# Altium footprint library Transformers.PcbLib: 17 footprints (part 1 of 2)
Each footprint in its own frame and in the unit in brackets; x right, y up, seen from the top. Pads: shape width x height; smd on the part's side, far side on the other; paste and mask are expansions set on the pad; w line width, h text height; cw(c..) or ccw(c..) is an arc to the next point about the centre after c.
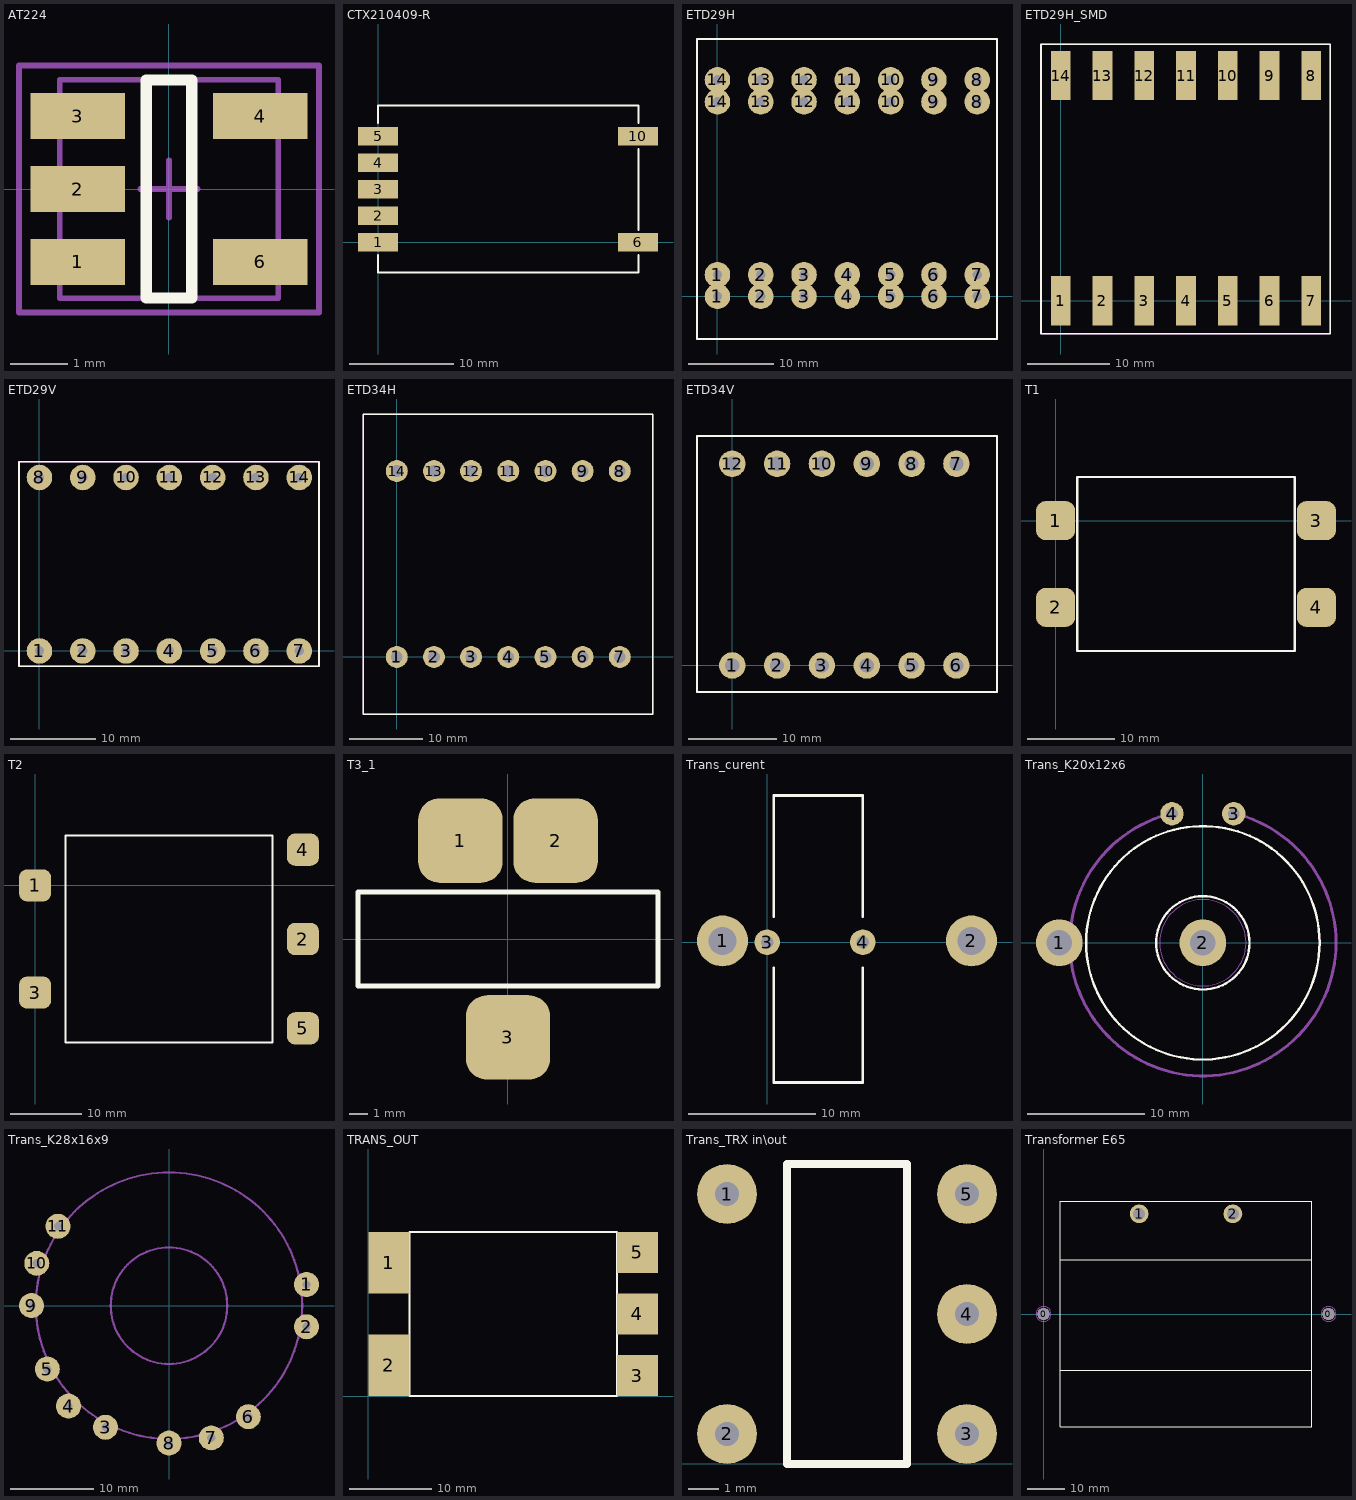
[diagram p0: the footprints below, top view; thin cyan lines are the x and y axes]

## AT224 [mm]
height 3.81
pads (5):
  rect 1.65x0.8 smd: 1(-1.59,-1.27) 2(-1.59,0) 3(-1.59,1.27) 4(1.59,1.27) 6(1.59,-1.27)
Top Overlay:
  lines w0.2: -0.4,-1.9 -0.4,1.9 0.4,1.9 0.4,-1.9 -0.4,-1.9
Mechanical 13:
  lines w0.1: -1.905,-1.905 1.905,-1.905 1.905,1.905 -1.905,1.905 -1.905,-1.905
Mechanical 15:
  lines w0.1: -0.5,0 0.5,0 ; 0,-0.5 0,0.5 ; -2.615,-2.155 2.615,-2.155 2.615,2.155 -2.615,2.155 -2.615,-2.155
3D body: height 3.81, standoff 0.05, extent -1.905,-1.905 1.905,1.905

## CTX210409-R [mm]
height 3.81
pads (7):
  rect 3.85x1.75 smd: 1(0,0) 2(0,2.54) 3(0,5.08) 4(0,7.62) 5(0,10.16) 6(24.85,0) 10(24.85,10.16)
Top Overlay:
  lines w0.2: 0,-1.2 0,-2.9 24.9,-2.9 24.9,-1.2 ; 0,11.4 0,13.1 24.9,13.1 24.9,11.4 ; 24.9,1.2 24.9,8.9
3D body "User Library-CTX210403 Transfo COILTRONICSG.STEP": height 5, standoff 0, extent 1.325,-2.95 23.525,13.1

## ETD29H [mm]
pads (28):
  round 3 hole 1.1: 1(0,0) 1(0,2.54) 2(5.08,0) 2(5.08,2.54) 3(10.16,0) 3(10.16,2.54) 4(15.24,0) 4(15.24,2.54) 5(20.32,0) 5(20.32,2.54) 6(25.4,0) 6(25.4,2.54) 7(30.48,0) 7(30.48,2.54) 8(30.48,22.83) 8(30.48,25.4) 9(25.4,22.83) 9(25.4,25.4) 10(20.32,22.83) 10(20.32,25.4) 11(15.24,22.83) 11(15.24,25.4) 12(10.16,22.83) 12(10.16,25.4) 13(5.08,22.83) 13(5.08,25.4) 14(0,22.83) 14(0,25.4)
Top Overlay:
  lines w0.2: -2.4,-5 -2.4,30.2 32.8,30.2 32.8,-5 -2.4,-5
TopAssy:
  lines w0.2: -2.4,-5 32.8,-5 32.8,30.2 -2.4,30.2 -2.4,-5
3D body "User Library-EDT29_V.STEP": height 40.37, standoff -3.58, extent -2.35,0.74 32.85,24.74

## ETD29H_SMD [mm]
pads (14):
  rect 2.4x6 smd: 1(0,0) 2(5.08,0) 3(10.16,0) 4(15.24,0) 5(20.32,0) 6(25.4,0) 7(30.48,0) 8(30.48,27.4) 9(25.4,27.4) 10(20.32,27.4) 11(15.24,27.4) 12(10.16,27.4) 13(5.08,27.4) 14(0,27.4)
Top Overlay:
  lines w0.2: -2.4,-4 32.8,-4 32.8,31.2 -2.4,31.2 -2.4,-4
TopAssy:
  lines w0.2: -2.4,-4 -2.4,31.2 32.8,31.2 32.8,-4 -2.4,-4
3D body "User Library-EDT29_V.STEP": height 43.87, standoff -0.08, extent -2.35,1.74 32.85,25.74

## ETD29V [mm]
pads (14):
  round 3 hole 1.1: 1(0,0) 2(5.08,0) 3(10.16,0) 4(15.24,0) 5(20.32,0) 6(25.4,0) 7(30.48,0) 8(0,20.35) 9(5.08,20.35) 10(10.16,20.35) 11(15.24,20.35) 12(20.32,20.35) 13(25.4,20.35) 14(30.48,20.35)
Top Overlay:
  lines w0.2: -2.4,-1.8 -2.4,22.2 32.8,22.2 32.8,-1.8 -2.4,-1.8
TopAssy:
  lines w0.2: -2.4,-1.8 32.8,-1.8 32.8,22.2 -2.4,22.2 -2.4,-1.8
3D body "User Library-EDT29_V.STEP": height 40.37, standoff -3.58, extent -2.35,-1.8 32.85,22.2

## ETD34H [mm]
pads (14):
  round 3 hole 1.6: 1(0,0) 2(5.08,0) 3(10.16,0) 4(15.24,0) 5(20.32,0) 6(25.4,0) 7(30.48,0) 8(30.48,25.4) 9(25.4,25.4) 10(20.32,25.4) 11(15.24,25.4) 12(10.16,25.4) 13(5.08,25.4) 14(0,25.4)
Top Overlay:
  lines w0.2: -4.6,-7.8 35,-7.8 35,33.2 -4.6,33.2 -4.6,-7.8
TopAssy:
  lines w0.2: -4.6,-7.8 -4.6,33.2 35,33.2 35,-7.8 -4.6,-7.8
3D body "User Library-ETD34.STEP": height 32.9, standoff -2.44, extent -4.56,-7.8 35.04,33.2

## ETD34V [mm]
pads (12):
  round 3 hole 1.6: 1(0,0) 2(5.08,0) 3(10.16,0) 4(15.24,0) 5(20.32,0) 6(25.4,0) 7(25.4,22.86) 8(20.32,22.86) 9(15.24,22.86) 10(10.16,22.86) 11(5.08,22.86) 12(0,22.86)
Top Overlay:
  lines w0.2: -4,-3 30,-3 30,26 -4,26 -4,-3
TopAssy:
  lines w0.2: -4,-3 -4,26 30,26 30,-3 -4,-3

## T1 [mm]
pads (4):
  rrect50% 4.5x4.5 smd: 1(0,0) 2(0,-10) 3(30,0) 4(30,-10)
Top Overlay:
  lines w0.254: 2.5,-15 27.5,-15 27.5,5 2.5,5 2.5,-15

## T2 [mm]
pads (5):
  rrect50% 4.5x4.5 smd: 1(0,0) 2(37.5,-7.5) 3(0,-15) 4(37.5,5) 5(37.5,-20)
Top Overlay:
  lines w0.254: 4.25,-22 4.25,7 33.25,7 33.25,-22 4.25,-22

## T3_1 [mm]
pads (3):
  rrect50% 4.5x4.5 smd: 1(-2.54,5.25) 2(2.54,5.25) 3(0,-5.25)
Top Overlay:
  lines w0.254: -8,-2.5 8,-2.5 8,2.5 -8,2.5 -8,-2.5

## Trans_curent [mm]
pads (4):
  round 4 hole 2.2: 1(-3.5,0.1) 2(16.02,0.1)
  round 2 hole 1: 3(0,0) 4(7.5,0)
Top Overlay:
  lines w0.2: 0.5,-2 0.5,-11 7.5,-11 7.5,-2 ; 0.5,2 0.5,11.5 7.5,11.5 7.5,2
3D body "User Library-5701-RC.STEP": height 28.03, standoff -7, extent -1.91,-10.985 9.41,11.435
3D body: height 15, standoff -3, extent -4.611,-1.018 -2.38,1.218
3D body: height -1.88, standoff -4.12, extent -4.629,-1.03 -2.4,1.2
3D body: height 16.12, standoff 13.88, extent -4.609,-1.015 -2.38,1.215
3D body: height 16.11, standoff 13.88, extent -3.5,-1.018 16,1.218
3D body: height 16.12, standoff 13.88, extent 14.891,-1.015 17.12,1.215
3D body: height -1.88, standoff -4.12, extent 14.891,-1.015 17.12,1.215
3D body: height 15, standoff -3, extent 14.889,-1.018 17.12,1.218

## Trans_K20x12x6 [mm]
height 15
pads (4):
  round 4 hole 2.2: 1(-12.3,0) 2(0,0)
  round 2 hole 1: 3(2.65,11.055) 4(-2.65,11.055)
Top Overlay:
  circle w0.2: c0,0 r4
  circle w0.2: c0,0 r10
TopAssy:
  circle w0.01: c0,0 r3.7
Top3D:
  lines w0.254: -2.659,11.092 ccw(c0,0) 2.659,11.092
3D body: height 7.2, standoff -0.2, extent 2.598,10.673 3.093,11.169
3D body: height 7.4, standoff 7, extent 2.598,10.674 3.093,11.169
3D body: height 0, standoff -0.4, extent 2.599,10.674 3.093,11.169
3D body: height 0, standoff -0.4, extent -2.868,2.683 -2.469,11.183
3D body: height 7.4, standoff 7, extent 1.403,3.121 3.048,11.085
3D body: height 7.4, standoff 7, extent -2.908,2.368 -2.347,2.929
3D body: height 0, standoff -0.4, extent -2.908,2.368 -2.347,2.929
3D body: height 7.2, standoff -0.2, extent -2.909,2.368 -2.347,2.93
3D body: height 7.4, standoff 7, extent -7.41,2.519 -2.477,8.291
3D body: height 7.4, standoff 7, extent -9.4,1.706 -2.958,5.186
3D body: height 7.2, standoff -0.2, extent -3.323,1.614 -2.788,2.148
3D body: height 7.2, standoff -0.2, extent -7.31,7.624 -6.775,8.159
3D body: height 0, standoff -0.4, extent -3.323,1.614 -2.789,2.148
3D body: height 7.4, standoff 7, extent -3.323,1.614 -2.789,2.148
3D body: height 7.4, standoff 7, extent -7.31,7.625 -6.776,8.159
3D body: height 0, standoff -0.4, extent -7.31,7.625 -6.776,8.159
3D body: height 0, standoff -0.4, extent -7.233,1.816 -2.927,8.04
3D body: height 0, standoff -0.4, extent -9.49,4.757 -9.029,5.218
3D body: height 7.4, standoff 7, extent -9.49,4.757 -9.029,5.218
3D body: height 7.2, standoff -0.2, extent -9.491,4.757 -9.029,5.219
3D body: height 0, standoff -0.4, extent -9.422,0.237 -3.651,5.17
3D body: height 7.4, standoff 7, extent -3.96,0.127 -3.499,0.588
3D body: height 0, standoff -0.4, extent -3.96,0.127 -3.499,0.588
3D body: height 7.2, standoff -0.2, extent -3.961,0.126 -3.499,0.588
3D body: height 7.4, standoff 7, extent -10.855,0.159 -3.695,1.802
3D body: height 7.4, standoff 7, extent -10.424,-2.323 -3.524,-0.301
3D body: height 7.2, standoff -0.2, extent -3.816,-0.743 -3.335,-0.263
3D body: height 7.2, standoff -0.2, extent -10.734,1.298 -10.253,1.779
3D body: height 0, standoff -0.4, extent -3.816,-0.743 -3.335,-0.263
3D body: height 7.4, standoff 7, extent -3.816,-0.743 -3.335,-0.263
3D body: height 7.4, standoff 7, extent -10.733,1.299 -10.253,1.779
3D body: height 0, standoff -0.4, extent -10.733,1.299 -10.253,1.779
3D body: height 0, standoff -0.4, extent -10.593,-0.684 -3.577,1.743
3D body: height 0, standoff -0.4, extent -10.597,-2.383 -10.053,-1.839
3D body: height 7.4, standoff 7, extent -10.597,-2.383 -10.053,-1.839
3D body: height 7.2, standoff -0.2, extent -10.597,-2.383 -10.052,-1.839
3D body: height 0, standoff -0.4, extent -10.371,-2.31 -3.17,-1.911
3D body: height 7.4, standoff 7, extent -3.384,-2.375 -2.84,-1.832
3D body: height 0, standoff -0.4, extent -3.384,-2.376 -2.84,-1.832
3D body: height 7.2, standoff -0.2, extent -3.385,-2.376 -2.84,-1.831
3D body: height 7.4, standoff 7, extent -9.446,-5.878 -3.012,-1.933
3D body: height 7.4, standoff 7, extent -6.799,-8.359 -2.315,-2.495
3D body: height 7.2, standoff -0.2, extent -2.752,-2.902 -2.194,-2.344
3D body: height 7.2, standoff -0.2, extent -9.364,-5.785 -8.806,-5.227
3D body: height 0, standoff -0.4, extent -2.752,-2.901 -2.195,-2.345
3D body: height 7.4, standoff 7, extent -2.752,-2.901 -2.195,-2.345
3D body: height 7.4, standoff 7, extent -9.363,-5.784 -8.806,-5.227
3D body: height 0, standoff -0.4, extent -9.363,-5.784 -8.806,-5.227
3D body: height 0, standoff -0.4, extent -9.206,-5.706 -2.445,-2.47
3D body: height 0, standoff -0.4, extent -6.865,-8.449 -6.355,-7.938
3D body: height 7.4, standoff 7, extent -6.865,-8.449 -6.355,-7.938
3D body: height 7.2, standoff -0.2, extent -6.865,-8.449 -6.355,-7.938
3D body: height 0, standoff -0.4, extent -6.773,-8.375 -1.002,-3.442
3D body: height 7.4, standoff 7, extent -1.345,-3.807 -0.834,-3.296
3D body: height 0, standoff -0.4, extent -1.345,-3.807 -0.834,-3.296
3D body: height 7.2, standoff -0.2, extent -1.345,-3.807 -0.834,-3.296
3D body: height 7.4, standoff 7, extent -3.737,-10.386 -0.901,-3.484
3D body: height 7.4, standoff 7, extent -0.484,-10.633 0.341,-3.622
3D body: height 7.2, standoff -0.2, extent -0.489,-3.851 -0.067,-3.428
3D body: height 7.2, standoff -0.2, extent -3.701,-10.309 -3.279,-9.887
3D body: height 0, standoff -0.4, extent -0.489,-3.851 -0.067,-3.429
3D body: height 7.4, standoff 7, extent -0.489,-3.851 -0.067,-3.429
3D body: height 7.4, standoff 7, extent -3.701,-10.309 -3.279,-9.887
3D body: height 0, standoff -0.4, extent -3.701,-10.309 -3.279,-9.887
3D body: height 0, standoff -0.4, extent -3.689,-10.227 -0.12,-3.606
3D body: height 0, standoff -0.4, extent -0.122,-10.821 0.389,-10.311
3D body: height 7.4, standoff 7, extent -0.121,-10.821 0.389,-10.311
3D body: height 7.2, standoff -0.2, extent -0.122,-10.822 0.389,-10.31
3D body: height 0, standoff -0.4, extent -0.071,-10.645 1.572,-3.486
3D body: height 7.4, standoff 7, extent 1.124,-3.717 1.634,-3.206
3D body: height 0, standoff -0.4, extent 1.124,-3.717 1.634,-3.206
3D body: height 7.2, standoff -0.2, extent 1.124,-3.717 1.635,-3.206
3D body: height 7.4, standoff 7, extent 1.193,-10.295 4.03,-3.393
3D body: height 7.4, standoff 7, extent 1.903,-8.163 7.01,-2.811
3D body: height 7.2, standoff -0.2, extent 1.775,-3.23 2.338,-2.666
3D body: height 7.2, standoff -0.2, extent 3.465,-10.242 4.029,-9.678
3D body: height 0, standoff -0.4, extent 1.775,-3.23 2.338,-2.667
3D body: height 7.4, standoff 7, extent 1.775,-3.23 2.338,-2.667
3D body: height 7.4, standoff 7, extent 3.466,-10.241 4.029,-9.678
3D body: height 0, standoff -0.4, extent 3.466,-10.241 4.029,-9.678
3D body: height 0, standoff -0.4, extent 1.883,-10.051 3.951,-2.957
3D body: height 0, standoff -0.4, extent 6.552,-8.261 7.096,-7.717
3D body: height 7.4, standoff 7, extent 6.552,-8.261 7.096,-7.717
3D body: height 7.2, standoff -0.2, extent 6.551,-8.262 7.096,-7.717
3D body: height 0, standoff -0.4, extent 3.074,-8.129 7.019,-1.694
3D body: height 7.4, standoff 7, extent 2.939,-2.019 3.483,-1.475
3D body: height 0, standoff -0.4, extent 2.939,-2.019 3.483,-1.475
3D body: height 7.2, standoff -0.2, extent 2.939,-2.019 3.484,-1.474
3D body: height 7.4, standoff 7, extent 3.112,-5.517 9.547,-1.572
3D body: height 7.4, standoff 7, extent 3.426,-1.956 10.426,-0.768
3D body: height 7.2, standoff -0.2, extent 3.234,-1.18 3.676,-0.739
3D body: height 7.2, standoff -0.2, extent 9.037,-5.465 9.479,-5.024
3D body: height 0, standoff -0.4, extent 3.235,-1.18 3.676,-0.74
3D body: height 7.4, standoff 7, extent 3.235,-1.18 3.676,-0.74
3D body: height 7.4, standoff 7, extent 9.037,-5.465 9.478,-5.024
3D body: height 0, standoff -0.4, extent 9.037,-5.465 9.478,-5.024
3D body: height 0, standoff -0.4, extent 3.388,-5.432 9.412,-0.829
3D body: height 0, standoff -0.4, extent 10.117,-1.988 10.578,-1.527
3D body: height 7.4, standoff 7, extent 10.117,-1.988 10.578,-1.527
3D body: height 7.2, standoff -0.2, extent 10.117,-1.988 10.579,-1.526
3D body: height 0, standoff -0.4, extent 3.556,-1.961 10.459,0.876
3D body: height 7.4, standoff 7, extent 3.337,0.472 3.798,0.933
3D body: height 0, standoff -0.4, extent 3.337,0.472 3.798,0.933
3D body: height 7.2, standoff -0.2, extent 3.336,0.472 3.799,0.934
3D body: height 7.4, standoff 7, extent 3.532,0.508 10.692,2.151
3D body: height 7.4, standoff 7, extent 3.172,1.308 9.229,5.504
3D body: height 7.2, standoff -0.2, extent 3.007,1.208 3.56,1.76
3D body: height 7.2, standoff -0.2, extent 10.206,1.655 10.759,2.208
3D body: height 0, standoff -0.4, extent 3.008,1.208 3.559,1.76
3D body: height 7.4, standoff 7, extent 3.008,1.208 3.559,1.76
3D body: height 7.4, standoff 7, extent 10.206,1.655 10.758,2.207
3D body: height 0, standoff -0.4, extent 10.206,1.655 10.758,2.207
3D body: height 0, standoff -0.4, extent 3.329,1.295 10.54,2.132
3D body: height 0, standoff -0.4, extent 8.796,5.023 9.357,5.584
3D body: height 7.4, standoff 7, extent 8.795,5.023 9.356,5.584
3D body: height 7.2, standoff -0.2, extent 8.795,5.022 9.357,5.584
3D body: height 0, standoff -0.4, extent 2.285,2.669 9.187,5.506
3D body: height 7.4, standoff 7, extent 2.02,2.549 2.581,3.11
3D body: height 0, standoff -0.4, extent 2.02,2.549 2.581,3.11
3D body: height 7.2, standoff -0.2, extent 2.02,2.549 2.582,3.111
3D body: height 7.4, standoff 7, extent 2.147,2.702 7.08,8.474
3D body: height 0, standoff -0.4, extent 1.494,3.176 6.991,8.422
3D body: height 0, standoff -0.4, extent 6.574,7.999 7.068,8.494
3D body: height 7.4, standoff 7, extent 6.573,7.999 7.068,8.494
3D body: height 7.4, standoff 7, extent 1.347,3.028 1.841,3.523
3D body: height 0, standoff -0.4, extent 1.347,3.028 1.841,3.523
3D body: height 7.2, standoff -0.2, extent 6.573,7.998 7.068,8.494
3D body: height 7.2, standoff -0.2, extent 1.346,3.028 1.842,3.524
3D body: height 9, standoff -3, extent -1.111,-1.118 1.12,1.118
3D body: height -1.88, standoff -4.12, extent -1.109,-1.115 1.12,1.115
3D body: height 7, standoff 0, extent -0.001,-10.001 10.001,0.001
3D body: height 7, standoff 0, extent -10.001,-10.001 0.001,0.001
3D body: height 7, standoff 0, extent -10.001,-0.001 0.001,10.001
3D body: height 7, standoff 0, extent -0.001,-0.001 10.001,10.001
3D body: height 10.12, standoff 7.88, extent -1.109,-1.115 1.12,1.115
3D body: height 10.11, standoff 7.88, extent -12.3,-1.118 0,1.118
3D body: height 10.12, standoff 7.88, extent -13.409,-1.115 -11.18,1.115
3D body: height -1.88, standoff -4.12, extent -13.409,-1.115 -11.18,1.115
3D body: height 9, standoff -3, extent -13.411,-1.118 -11.18,1.118

## Trans_K28x16x9 [mm]
pads (11):
  round 3 hole 1: 1(16.51,2.54) 2(16.51,-2.54) 3(-7.62,-14.605) 4(-12.065,-12.065) 5(-14.605,-7.62) 6(9.525,-13.335) 7(5.08,-15.875) 8(0,-16.51) 9(-16.51,0) 10(-15.875,5.08) 11(-13.335,9.525)
Mechanical 15:
  circle w0.254: c0,0 r16
  circle w0.254: c0,0 r7

## TRANS_OUT [mm]
pads (5):
  rect 5x7.5 smd: 1(2.5,16.25) 2(2.5,3.75)
  rect 5x5 smd: 3(32.75,2.5) 4(32.75,10) 5(32.75,17.5)
Top Overlay:
  lines w0.254: 5,0 30.25,0 30.25,20 5,20 5,0

## Trans_TRX in\out [mm]
pads (5):
  round 2 hole 0.8: 1(3,9) 2(3,1) 3(11,1) 4(11,5) 5(11,9)
Top Overlay:
  lines w0.254: 5,0 9,0 9,10 5,10 5,0

## Transformer E65 [mm]
pads (4):
  round 3.2 hole 3.2: 0(0,0) 0(76,0)
  round 5 hole 3.2: 1(25.5,26.7) 2(50.5,26.7)
Top Overlay:
  lines w0.2: 71.5,-15 4.5,-15 4.5,14.5 71.5,14.5 ; 4.5,-30 71.5,-30 71.5,30 4.5,30 4.5,-30
Top3D:
  circle w0.254: c0,0 r2
  circle w0.254: c76,0 r2
3D body: height 10, standoff -2, extent 49.26,25.453 51.75,27.948
3D body: height 10, standoff -2, extent 24.26,25.453 26.75,27.948
3D body: height 56, standoff 10, extent 16.5,-29 59.5,29
3D body "User Library-Male - Female Hexagonal Threaded Standoffs; length 60mm; key 5mm; M3x10mm and M3x6mm.STEP": height 60, standoff -6, extent -2.5,-2.887 2.5,2.887
3D body "User Library-Male - Female Hexagonal Threaded Standoffs; length 60mm; key 5mm; M3x10mm and M3x6mm.STEP": height 60, standoff -6, extent 73.5,-2.887 78.5,2.887
3D body: height 70, standoff 65, extent -4.5,-15 80.501,14.001
3D body: height 70, standoff 65, extent -1.999,-2 1.999,1.999
3D body: height 70, standoff 65, extent 74.001,-2 77.999,1.999
3D body "SW3dPS-allen m3XX20 v2.STEP": height 73.51, standoff 50, extent -2.75,-2.75 2.75,2.75
3D body "SW3dPS-allen m3XX20 v2.STEP": height 73.51, standoff 50, extent 73.25,-2.75 78.75,2.75
3D body "User Library-e65-27.STEP": height 65, standoff 32.2, extent 5.5,-13.7 70.5,13.7
3D body "User Library-e65-27.STEP": height 32.8, standoff 0, extent 5.5,-13.7 70.5,13.7